# EAGLE library part L6920DB (library cTechnologies_integratedCircuits)
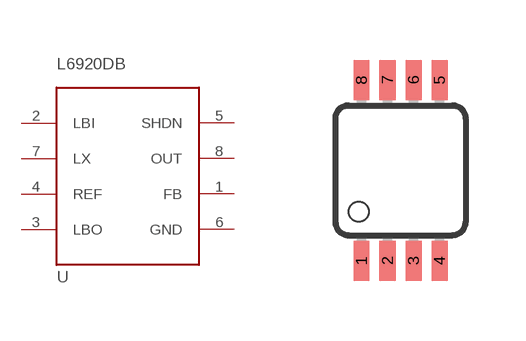
[diagram p17: symbol with the pads of MSOP08; footprint MSOP08]

Designator prefix -

## L6920DB  [MSOP08]
1  FB
2  LBI
3  LBO
4  REF
5  SHDN
6  GND
7  LX
8  OUT

## Footprint MSOP08 (pad centres in mm)
8-Lead micro SO (RM-8) Source: http://www.analog.com/UploadedFiles/Data_Sheets/703465986AD8611_2_0.pdf
smd 0.4 x 1: 1 -0.976,-2.263; 2 -0.326,-2.263; 3 0.324,-2.263; 4 0.974,-2.263; 5 0.974,2.262; 6 0.324,2.262; 7 -0.326,2.262; 8 -0.976,2.262